# EAGLE library part LPS25HB (library STMicroelectronics)
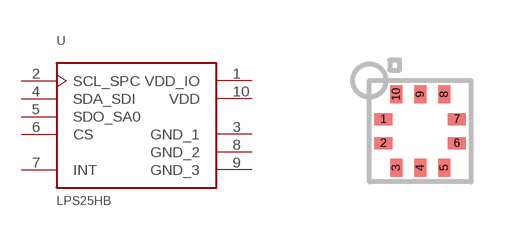
[diagram p0: symbol with the pads of HLGA-10L_2.5X2.5; footprint HLGA-10L_2.5X2.5]

Designator prefix U

## LPS25HB  [HLGA-10L_2.5X2.5]
1  VDD_IO  pwr
2  SCL_SPC  in
3  GND_1  pwr
4  SDA_SDI
5  SDO_SA0
6  CS  in
7  INT  out
8  GND_2  pwr
9  GND_3
10  VDD  pwr

## Footprint HLGA-10L_2.5X2.5 (pad centres in mm)
smd 0.45 x 0.3: 1 -0.92,0.3; 2 -0.92,-0.3; 6 0.92,-0.3; 7 0.92,0.3
smd 0.3 x 0.45: 3 -0.6,-0.92; 4 0,-0.92; 5 0.6,-0.92; 8 0.6,0.92; 9 0,0.92; 10 -0.6,0.92